# Altium schematic symbol library MP008253.SchLib: 1 symbol
Pins are listed as number, name and electrical type; pins without a type are passive.

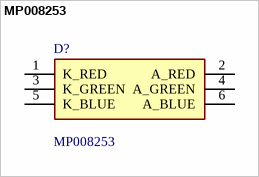
[diagram p0: symbol MP008253]

## MP008253
designator D?
Chip LED, RGB, 5mm x 5mm, 120, 6-Pin, Surface Mount; Manufacturer_Name: Multicomp Pro; Geometry.Height: 1.7mm; Farnell Part Number: *; Farnell Price/Stock: *; Manufacturer_Part_Number: MP008253; Datasheet Link: *
footprint MP008253
pins: 1 K_RED, 2 A_RED, 3 K_GREEN, 4 A_GREEN, 5 K_BLUE, 6 A_BLUE